# Altium schematic symbol library Potentiometer.SchLib: 1 symbol
Pins are listed as number, name and electrical type; pins without a type are passive.

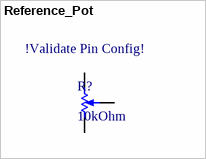
[diagram p0: symbol Reference_Pot]

## Reference_Pot
designator R?, comment 10kOhm
Potentiometer, 10kOhm Resistance, Current Rating, Power Rating; Distributor: Digikey; DistributorReference: *; Value: 10kOhm; CurrentRating: *; VoltageRating: *; Package: *; PowerRating: *; Manufacturer: *; ManufacturerReference: *; InventoryNumber: *
pins: CCW -, CW +, W
text: !Validate Pin Config!